# Altium footprint library 2019-05-08_15-36-24.PcbLib: 3 footprints
Each footprint in its own frame and in the unit in brackets; x right, y up, seen from the top. Pads: shape width x height; smd on the part's side, far side on the other; paste and mask are expansions set on the pad; w line width, h text height; cw(c..) or ccw(c..) is an arc to the next point about the centre after c.
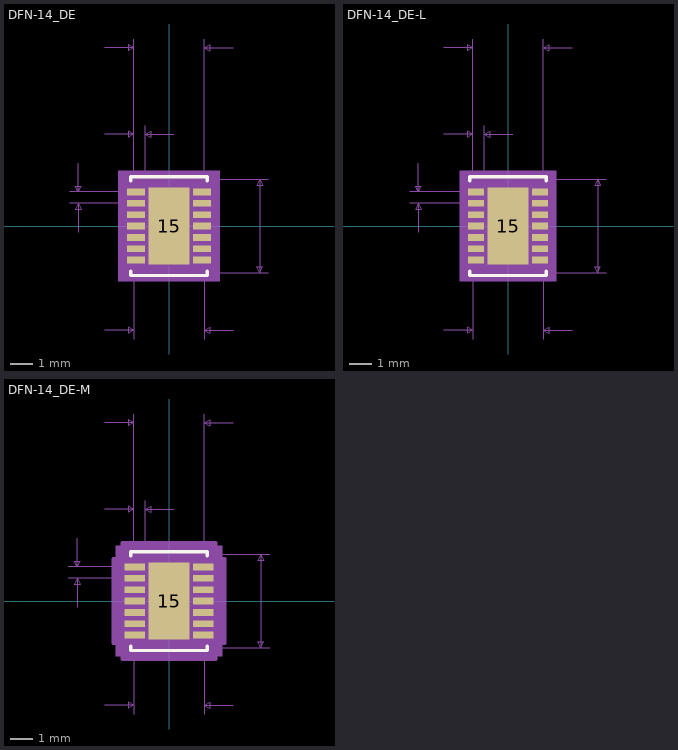
[diagram p0: the footprints below, top view; thin cyan lines are the x and y axes]

## DFN-14_DE [mm]
pads (15):
  rect 0.805x0.3 smd: 1(-1.452,1.5) 2(-1.452,1) 3(-1.452,0.5) 4(-1.452,0) 5(-1.452,-0.5) 6(-1.452,-1) 7(-1.452,-1.5) 8(1.452,-1.5) 9(1.452,-1) 10(1.452,-0.5) 11(1.452,0) 12(1.452,0.5) 13(1.452,1) 14(1.452,1.5)
  rect 1.8x3.4 smd paste-1.687: 15(0,0)
Top Overlay:
  lines w0.152: -1.677,-1.983 -1.677,-2.177 1.677,-2.177 1.677,-1.983 ; -1.677,1.983 -1.677,2.177 1.677,2.177 1.677,1.983
Top Paste:
  region: 0.8,1.6 -0.8,1.6 -0.8,0.1 0.8,0.1
  region: 0.8,-0.1 -0.8,-0.1 -0.8,-1.6 0.8,-1.6
Mechanical 5:
  region: 2.236,-2.431 -2.236,-2.431 -2.236,2.431 2.236,2.431
Mechanical 7:
  lines w0.025: -4.373,1 -1.452,1 ; -4.373,1.5 -1.452,1.5 ; -3.992,-0.27 -3.992,1 ; -3.992,2.77 -3.992,1.5 ; -2.82,-4.59 -1.55,-4.59 ; -2.82,4.04 -1.55,4.04 ; -2.82,7.85 -1.55,7.85 ; -1.55,-4.971 -1.55,-2.05 ; -1.55,4.421 -1.55,1.5 -1.55,8.231 ; -1.05,1.5 -1.05,4.421 ; 0.22,4.04 -1.05,4.04 ; 1.55,-4.971 1.55,-2.05 4.373,-2.05 ; 1.55,1.5 1.55,8.231 ; 1.55,2.05 4.373,2.05 ; 2.82,-4.59 1.55,-4.59 ; 2.82,7.85 1.55,7.85 ; -3.992,1 -4.119,0.746 -3.865,0.746 -3.992,1 ; -3.992,1.5 -4.119,1.754 -3.865,1.754 -3.992,1.5 ; -1.55,-4.59 -1.804,-4.463 -1.804,-4.717 -1.55,-4.59 ; -1.55,4.04 -1.804,4.167 -1.804,3.913 -1.55,4.04 ; -1.55,7.85 -1.804,7.977 -1.804,7.723 -1.55,7.85 ; -1.05,4.04 -0.796,4.167 -0.796,3.913 -1.05,4.04 ; 1.55,-4.59 1.804,-4.463 1.804,-4.717 1.55,-4.59 ; 1.55,7.85 1.804,7.977 1.804,7.723 1.55,7.85 ; 3.992,-2.05 3.992,2.05 ; 3.992,-2.05 3.865,-1.796 4.119,-1.796 3.992,-2.05 ; 3.992,2.05 3.865,1.796 4.119,1.796 3.992,2.05
  text "Default Padstyle: RX31p69Y11p81D0T" at -10.795,-11.448 h1.27
  text "Heat Tab Padstyle: RX70p87Y133p86D0T" at -11.43,-12.972 h1.27
  text "Alt 1 Padstyle: OX60Y90D30P" at -8.572,-16.02 h1.27
  text "Alt 2 Padstyle: OX90Y60D30P" at -8.572,-17.544 h1.27
  text "0.122in/3.1mm" at -2.064,8.358 h0.64
  text "0.02in/0.5mm" at -3.205,4.548 h0.64
  text "0.02in/0.5mm" at -8.31,0.933 h0.64
  text "0.161in/4.1mm" at 4.5,-0.318 h0.64
  text "0.122in/3.1mm" at -2.064,-5.733 h0.64
Mechanical 13:
  lines w0: -0.305,2.05 ccw(c0,2.05) 0.305,2.05
  lines w0.025: -1.55,-2.05 1.55,-2.05 1.55,2.05 -1.55,2.05 -1.55,-2.05
Mechanical 15:
  region: -1.804,-1.801 -2.109,-1.801 -2.109,1.801 -1.804,1.801 -1.804,2.304 1.804,2.304 1.804,1.801 2.109,1.801 2.109,-1.801 1.804,-1.801 1.804,-2.304 -1.804,-2.304
  lines w0.152: -2.109,-1.801 -2.109,1.801 -1.804,1.801 -1.804,2.304 1.804,2.304 1.804,1.801 2.109,1.801 2.109,-1.801 1.804,-1.801 1.804,-2.304 -1.804,-2.304 -1.804,-1.801 -2.109,-1.801
3D body: height 0.25, standoff 0, extent 0,0 0.254,0.254

## DFN-14_DE-L [mm]
pads (15):
  rect 0.703x0.3 smd: 1(-1.402,1.5) 2(-1.402,1) 3(-1.402,0.5) 4(-1.402,0) 5(-1.402,-0.5) 6(-1.402,-1) 7(-1.402,-1.5) 8(1.402,-1.5) 9(1.402,-1) 10(1.402,-0.5) 11(1.402,0) 12(1.402,0.5) 13(1.402,1) 14(1.402,1.5)
  rect 1.8x3.4 smd paste-1.687: 15(0,0)
Top Overlay:
  lines w0.152: -1.677,-1.983 -1.677,-2.177 1.677,-2.177 1.677,-1.983 ; -1.677,1.983 -1.677,2.177 1.677,2.177 1.677,1.983
Top Paste:
  region: 0.8,1.6 -0.8,1.6 -0.8,0.1 0.8,0.1
  region: 0.8,-0.1 -0.8,-0.1 -0.8,-1.6 0.8,-1.6
Mechanical 5:
  region: 2.134,-2.431 -2.134,-2.431 -2.134,2.431 2.134,2.431
Mechanical 7:
  lines w0.025: -4.323,1 -1.402,1 ; -4.323,1.5 -1.402,1.5 ; -3.942,-0.27 -3.942,1 ; -3.942,2.77 -3.942,1.5 ; -2.82,-4.59 -1.55,-4.59 ; -2.82,4.04 -1.55,4.04 ; -2.82,7.85 -1.55,7.85 ; -1.55,-4.971 -1.55,-2.05 ; -1.55,4.421 -1.55,1.5 -1.55,8.231 ; -1.05,1.5 -1.05,4.421 ; 0.22,4.04 -1.05,4.04 ; 1.55,-4.971 1.55,-2.05 4.323,-2.05 ; 1.55,1.5 1.55,8.231 ; 1.55,2.05 4.323,2.05 ; 2.82,-4.59 1.55,-4.59 ; 2.82,7.85 1.55,7.85 ; -3.942,1 -4.069,0.746 -3.815,0.746 -3.942,1 ; -3.942,1.5 -4.069,1.754 -3.815,1.754 -3.942,1.5 ; -1.55,-4.59 -1.804,-4.463 -1.804,-4.717 -1.55,-4.59 ; -1.55,4.04 -1.804,4.167 -1.804,3.913 -1.55,4.04 ; -1.55,7.85 -1.804,7.977 -1.804,7.723 -1.55,7.85 ; -1.05,4.04 -0.796,4.167 -0.796,3.913 -1.05,4.04 ; 1.55,-4.59 1.804,-4.463 1.804,-4.717 1.55,-4.59 ; 1.55,7.85 1.804,7.977 1.804,7.723 1.55,7.85 ; 3.942,-2.05 3.942,2.05 ; 3.942,-2.05 3.815,-1.796 4.069,-1.796 3.942,-2.05 ; 3.942,2.05 3.815,1.796 4.069,1.796 3.942,2.05
  text "Default Padstyle: RX27p69Y11p81D0T" at -10.795,-11.448 h1.27
  text "Heat Tab Padstyle: RX70p87Y133p86D0T" at -11.43,-12.972 h1.27
  text "Alt 1 Padstyle: OX60Y90D30P" at -8.572,-16.02 h1.27
  text "Alt 2 Padstyle: OX90Y60D30P" at -8.572,-17.544 h1.27
  text "0.122in/3.1mm" at -2.064,8.358 h0.64
  text "0.02in/0.5mm" at -3.205,4.548 h0.64
  text "0.02in/0.5mm" at -8.26,0.933 h0.64
  text "0.161in/4.1mm" at 4.45,-0.318 h0.64
  text "0.122in/3.1mm" at -2.064,-5.733 h0.64
Mechanical 13:
  lines w0: -0.305,2.05 ccw(c0,2.05) 0.305,2.05
  lines w0.025: -1.55,-2.05 1.55,-2.05 1.55,2.05 -1.55,2.05 -1.55,-2.05
Mechanical 15:
  region: -1.652,-1.77 -1.855,-1.77 -1.855,1.77 -1.652,1.77 -1.652,2.152 1.652,2.152 1.652,1.77 1.855,1.77 1.855,-1.77 1.652,-1.77 1.652,-2.152 -1.652,-2.152
  lines w0.152: -1.855,-1.77 -1.855,1.77 -1.652,1.77 -1.652,2.152 1.652,2.152 1.652,1.77 1.855,1.77 1.855,-1.77 1.652,-1.77 1.652,-2.152 -1.652,-2.152 -1.652,-1.77 -1.855,-1.77
3D body: height 0.25, standoff 0, extent 0,0 0.254,0.254

## DFN-14_DE-M [mm]
pads (15):
  rect 0.906x0.3 smd: 1(-1.503,1.5) 2(-1.503,1) 3(-1.503,0.5) 4(-1.503,0) 5(-1.503,-0.5) 6(-1.503,-1) 7(-1.503,-1.5) 8(1.503,-1.5) 9(1.503,-1) 10(1.503,-0.5) 11(1.503,0) 12(1.503,0.5) 13(1.503,1) 14(1.503,1.5)
  rect 1.8x3.4 smd paste-1.687: 15(0,0)
Top Overlay:
  lines w0.152: -1.677,-1.983 -1.677,-2.177 1.677,-2.177 1.677,-1.983 ; -1.677,1.983 -1.677,2.177 1.677,2.177 1.677,1.983
Top Paste:
  region: 0.8,1.6 -0.8,1.6 -0.8,0.1 0.8,0.1
  region: 0.8,-0.1 -0.8,-0.1 -0.8,-1.6 0.8,-1.6
Mechanical 5:
  region: 2.337,-2.431 -2.337,-2.431 -2.337,2.431 2.337,2.431
Mechanical 7:
  lines w0.025: -4.424,1 -1.503,1 ; -4.424,1.5 -1.503,1.5 ; -4.043,-0.27 -4.043,1 ; -4.043,2.77 -4.043,1.5 ; -2.82,-4.59 -1.55,-4.59 ; -2.82,4.04 -1.55,4.04 ; -2.82,7.85 -1.55,7.85 ; -1.55,-4.971 -1.55,-2.05 ; -1.55,4.421 -1.55,1.5 -1.55,8.231 ; -1.05,1.5 -1.05,4.421 ; 0.22,4.04 -1.05,4.04 ; 1.55,-4.971 1.55,-2.05 4.424,-2.05 ; 1.55,1.5 1.55,8.231 ; 1.55,2.05 4.424,2.05 ; 2.82,-4.59 1.55,-4.59 ; 2.82,7.85 1.55,7.85 ; -4.043,1 -4.17,0.746 -3.916,0.746 -4.043,1 ; -4.043,1.5 -4.17,1.754 -3.916,1.754 -4.043,1.5 ; -1.55,-4.59 -1.804,-4.463 -1.804,-4.717 -1.55,-4.59 ; -1.55,4.04 -1.804,4.167 -1.804,3.913 -1.55,4.04 ; -1.55,7.85 -1.804,7.977 -1.804,7.723 -1.55,7.85 ; -1.05,4.04 -0.796,4.167 -0.796,3.913 -1.05,4.04 ; 1.55,-4.59 1.804,-4.463 1.804,-4.717 1.55,-4.59 ; 1.55,7.85 1.804,7.977 1.804,7.723 1.55,7.85 ; 4.043,-2.05 4.043,2.05 ; 4.043,-2.05 3.916,-1.796 4.17,-1.796 4.043,-2.05 ; 4.043,2.05 3.916,1.796 4.17,1.796 4.043,2.05
  text "Default Padstyle: RX35p69Y11p81D0T" at -10.795,-11.448 h1.27
  text "Heat Tab Padstyle: RX70p87Y133p86D0T" at -11.43,-12.972 h1.27
  text "Alt 1 Padstyle: OX60Y90D30P" at -8.572,-16.02 h1.27
  text "Alt 2 Padstyle: OX90Y60D30P" at -8.572,-17.544 h1.27
  text "0.122in/3.1mm" at -2.064,8.358 h0.64
  text "0.02in/0.5mm" at -3.205,4.548 h0.64
  text "0.02in/0.5mm" at -8.361,0.933 h0.64
  text "0.161in/4.1mm" at 4.551,-0.318 h0.64
  text "0.122in/3.1mm" at -2.064,-5.733 h0.64
Mechanical 13:
  lines w0: -0.305,2.05 ccw(c0,2.05) 0.305,2.05
  lines w0.025: -1.55,-2.05 1.55,-2.05 1.55,2.05 -1.55,2.05 -1.55,-2.05
Mechanical 15:
  region: -2.058,-1.852 -2.464,-1.852 -2.464,1.852 -2.058,1.852 -2.058,2.558 2.058,2.558 2.058,1.852 2.464,1.852 2.464,-1.852 2.058,-1.852 2.058,-2.558 -2.058,-2.558
  lines w0.152: -2.464,-1.852 -2.464,1.852 -2.058,1.852 -2.058,2.558 2.058,2.558 2.058,1.852 2.464,1.852 2.464,-1.852 2.058,-1.852 2.058,-2.558 -2.058,-2.558 -2.058,-1.852 -2.464,-1.852
3D body: height 0.25, standoff 0, extent 0,0 0.254,0.254